# Altium schematic symbol library SnapEDAsch.SchLib: 1 symbol
Pins are listed as number, name and electrical type; pins without a type are passive.

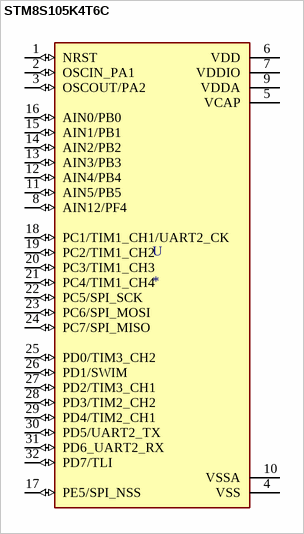
[diagram p0: symbol STM8S105K4T6C]

## STM8S105K4T6C
designator U
STM8 STM8S Microcontroller IC 8-Bit 16MHz 16KB _16K x 8_ FLASH; MF: STMicroelectronics; MP: STM8S105K4T6C; Digi-Key_Purchase_URL: https://www.digikey.com.cn/product-detail/zh/stmicroelectronics/STM8S105K4T6C/497-8947-ND/2053323?utm_source=snapeda&utm_medium=aggregator&utm_campaign=symbol; Digi-Key_Part_Number: 497-8947-ND; Package: LQFP-32 STMicroelectronics; Value: *; SnapEDA_Link: https://www.snapeda.com/parts/STM8S105K4T6C/STMicroelectronics/view-part/377902/?ref=snap
footprint QFP80P900X900X160-32N
pins: 1 NRST (io), 2 OSCIN_PA1 (io), 3 OSCOUT/PA2 (io), 4 VSS (power), 5 VCAP (power), 6 VDD (power), 7 VDDIO (power), 8 AIN12/PF4 (io), 9 VDDA (power), 10 VSSA (power), 11 AIN5/PB5 (io), 12 AIN4/PB4 (io), 13 AIN3/PB3 (io), 14 AIN2/PB2 (io), 15 AIN1/PB1 (io), 16 AIN0/PB0 (io), 17 PE5/SPI_NSS (io), 18 PC1/TIM1_CH1/UART2_CK (io), 19 PC2/TIM1_CH2 (io), 20 PC3/TIM1_CH3 (io), 21 PC4/TIM1_CH4 (io), 22 PC5/SPI_SCK (io), 23 PC6/SPI_MOSI (io), 24 PC7/SPI_MISO (io), 25 PD0/TIM3_CH2 (io), 26 PD1/SWIM (io), 27 PD2/TIM3_CH1 (io), 28 PD3/TIM2_CH2 (io), 29 PD4/TIM2_CH1 (io), 30 PD5/UART2_TX (io), 31 PD6_UART2_RX (io), 32 PD7/TLI (io)